# Altium schematic symbol library IRNAS_MPPT LT3652.SCHLIB: 23 symbols
Pins are listed as number, name and electrical type; pins without a type are passive.

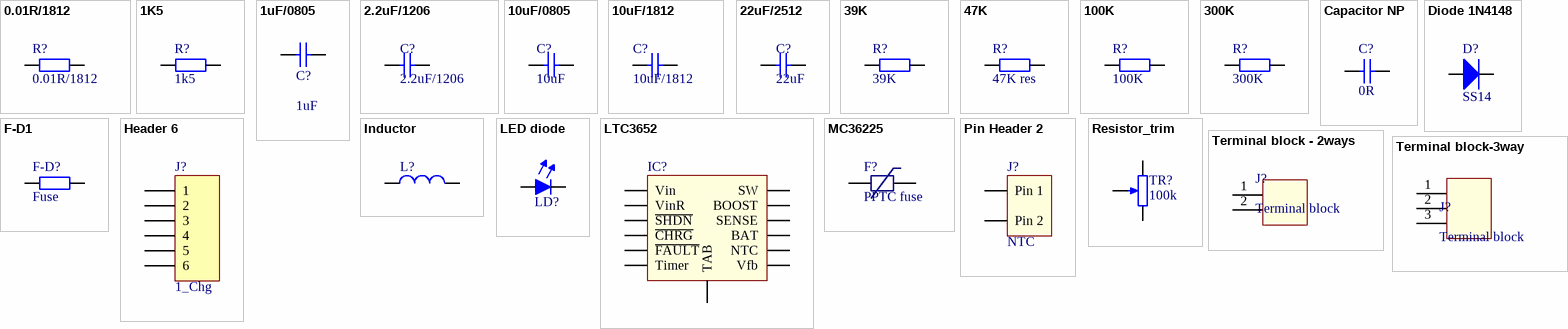
[diagram p0: symbols 0.01R/1812 to Terminal block-3way]

## 0.01R/1812
designator R?
Manufacturer: Vishay; Manufacturer Part Number: WSLT2010R0100FEA18; Description: VISHAY         WSLT2010R0100FEA18            SMD Current Sense Resistor, AEC-Q200 WSLT2010 Series, 0.01 ohm, 1 W,  1%, 2010 [5025 Metric]; Resistance: 0.01ohm; Resistor Case Style: 2010 [5025 Metric]; Power Rating: 1W; Resistance Tolerance: ± 1%; Product Range: WSLT2010 Series; Resistor Element Type: Metal Strip; Temperature Coefficient: ± 75ppm/°C; Automotive Qualification Standard: AEC-Q200; SVHC: To Be Advised; Supplier 1: Farnell; Stock 1: 12782; Pricing 1: 10=0.985, 100=0.708, 500=0.572, 1000=0.522 (EUR); Packaging: Cut Tape; MSL: MSL 1 - Unlimited; ComponentLink1URL: http://www.farnell.com/datasheets/2049204.pdf; ComponentLink1Description: http://www.farnell.com/datasheets/2049204.pdf; ComponentLink2URL: http://www.mouser.com/ds/2/427/wslt2010-73010.pdf; ComponentLink2Description: http://www.mouser.com/ds/2/427/wslt2010-73010.pdf; Supplier Part Number 1: 2420772
footprint 1812 RES (1812 RES med)
pins: 1, 2

## 1K5
designator R?, comment value 1k5  (hidden comment: Resistor generic)
1K5; Manufacturer: Vishay; Manufacturer Part Number: CRCW08051K50FKEA; Description: RES SMD 1.5K OHM 1% 1/8W 0805; Brand: Vishay / Dale; Resistance: 1.5 kOhms; Tolerance: 1 %; Power Rating: 125 mW (1/8 W); Temperature Coefficient: 100 PPM / K; Voltage Rating: 150 V; Unit Weight: 0.000194 oz; Supplier 1: Farnell; Stock 1: 1298; Pricing 1: 10=0.0358, 100=0.0246, 500=0.0193, 1000=0.0098 (GBP); Product Category: Thick Film Resistors - SMD; RoHS: Details; Case Code - in: 0805; Case Code - mm: 2012; Operating Temperature Range: - 55 C to + 155 C; Series: CRCW; Height: 0.45 mm; Length: 2 mm; Package / Case: 0805 (2012 metric); Packaging: Reel; Product: Thick Film Resistors SMD; Factory Pack Quantity: 5000; Termination Style: SMD/SMT; Width: 1.25 mm; ComponentLink1URL: https://datasheet.ciiva.com/11809/0900766b80d98b26-11809039.pdf; ComponentLink1Description: https://datasheet.ciiva.com/11809/0900766b80d98b26-11809039.pdf; ComponentLink2URL: https://datasheet.ciiva.com/2467/dcrcwe3-2467185.pdf; ComponentLink2Description: https://datasheet.ciiva.com/2467/dcrcwe3-2467185.pdf; ComponentLink3URL: https://datasheet.ciiva.com/2467/dcrcwe3-2467186.pdf; ComponentLink3Description: https://datasheet.ciiva.com/2467/dcrcwe3-2467186.pdf; ComponentLink4URL: https://datasheet.ciiva.com/2467/dcrcwe3-2467187.pdf; ComponentLink4Description: https://datasheet.ciiva.com/2467/dcrcwe3-2467187.pdf; ComponentLink5URL: https://datasheet.ciiva.com/16291/dcrcwe3-16291272.pdf; ComponentLink5Description: https://datasheet.ciiva.com/16291/dcrcwe3-16291272.pdf; ComponentLink6URL: https://datasheet.ciiva.com/7777/1720486-7777609.pdf; ComponentLink6Description: https://datasheet.ciiva.com/7777/1720486-7777609.pdf; ComponentLink7URL: https://datasheet.ciiva.com/16778/70201119-16778857.pdf; ComponentLink7Description: https://datasheet.ciiva.com/16778/70201119-16778857.pdf; ComponentLink8URL: https://datasheet.ciiva.com/26312/fld-crcw-e3-data-en-26312926.pdf; ComponentLink8Description: https://datasheet.ciiva.com/26312/fld-crcw-e3-data-en-26312926.pdf; ComponentLink9URL: https://datasheet.ciiva.com/3258/dcrcwe3-3258255.pdf; ComponentLink9Description: https://datasheet.ciiva.com/3258/dcrcwe3-3258255.pdf; ComponentLink10URL: https://datasheet.ciiva.com/7777/1697337-7777375.pdf; ComponentLink10Description: https://datasheet.ciiva.com/7777/1697337-7777375.pdf; Supplier Part Number 1: 1652940
footprint 0805 RES (RES0805 med)
footprint 1206 RES (RES1206 med)
footprint 1210 res (RES1210 med low)
footprint 1812 RES (1812 RES med)
footprint 2512 RES (2512 RES med)
footprint 0603 RES (RES0603 medium)
pins: 1, 2

## 1uF/0805
designator C?, comment 1uF
Manufacturer: Murata; Manufacturer Part Number: GCM21BR7YA105KA55L; Description: CAP CER 1UF 35V X7R 0805; Capacitance: 1 µF; Dielectric: X7R; Tolerance (%): ±10 %; Rated Voltage: 35 V; Supplier 1: Farnell; Stock 1: 3630; Pricing 1: 5=0.391, 50=0.21, 250=0.162, 500=0.111 (EUR); Case Size/Dimension: 0805; ComponentLink1URL: https://datasheet.ciiva.com/11616/product-11616620.pdf; ComponentLink1Description: https://datasheet.ciiva.com/11616/product-11616620.pdf; ComponentLink2URL: https://datasheet.ciiva.com/138/s0717e-138752.pdf; ComponentLink2Description: https://datasheet.ciiva.com/138/s0717e-138752.pdf; ComponentLink3URL: https://datasheet.ciiva.com/138/s0717e-138753.pdf; ComponentLink3Description: https://datasheet.ciiva.com/138/s0717e-138753.pdf; ComponentLink4URL: https://datasheet.ciiva.com/18183/getdatasheetpartid-251151-18183719.pdf; ComponentLink4Description: https://datasheet.ciiva.com/18183/getdatasheetpartid-251151-18183719.pdf; ComponentLink5URL: https://datasheet.ciiva.com/138/s0717e-138751.pdf; ComponentLink5Description: https://datasheet.ciiva.com/138/s0717e-138751.pdf; Supplier Part Number 1: 2494199
footprint 0805 CAP (0805 cap)
pins: 1, 2

## 2.2uF/1206
designator C?
Manufacturer: Vishay Sprague; Manufacturer Part Number: TMCMA1V225MTRF; Mfr Case Code: A Case; Description: Tantalum Capacitors - Solid SMD 2.2uF 35V 20% A case; Capacitance: 2.2 uF; Voltage Rating: 35 V; Tolerance: 20 %; ESR: 4.4 Ohms; Brand: Vishay / Sprague; Dissipation Factor DF: 8; Leakage Current: 800 nA; Ripple Current: 133 mA; Type: Solid Tantalum Surface Mount Chip Capacitors, Molded Case, Extended Range; Unit Weight: 0.000571 oz; Supplier 1: Farnell; Stock 1: 209; Pricing 1: 5=0.274, 50=0.228, 250=0.166, 500=0.153, 1000=0.14, 2000=0.122, 10000=0.119 (EUR); Product Category: Tantalum Capacitors - Solid SMD; RoHS: True; Case Code - in: 1206; Case Code - mm: 3216; Height: 1.8 mm; Operating Temperature Range: - 55 C to + 125 C; Series: TMCM; Length: 3.2 mm; Maximum Operating Temperature: + 125 C; Minimum Operating Temperature: - 55 C; Package / Case: 1206 (3216 metric); Packaging: Reel; Product: Tantalum Solid Surface Mounts; Factory Pack Quantity: 2000; Termination Style: SMD/SMT; Width: 1.6 mm; ComponentLink1URL: http://www.mouser.com/ds/2/427/tmcm-515668.pdf; ComponentLink1Description: http://www.mouser.com/ds/2/427/tmcm-515668.pdf; ComponentLink2URL: http://www.farnell.com/datasheets/1948250.pdf; ComponentLink2Description: http://www.farnell.com/datasheets/1948250.pdf; ComponentLink3URL: http://www.vishay.com/docs/40178/tmcm.pdf; ComponentLink3Description: http://www.vishay.com/docs/40178/tmcm.pdf; Supplier Part Number 1: 2491481
footprint 1206 CAP (1206 cap med)
pins: 1, 2

## 10uF/0805
designator C?, comment 10uF
Manufacturer: Murata; Manufacturer Part Number: GRM219R61A106KE44D; Description: CAP CER 10UF 10V X5R 0805; Product Training Modules: High-Cap Multilayer Ceramic Capacitors; Catalog Drawings: GRM Series_0805_0.85; Featured Product: GA3 Safety Recognized Caps and Hi-Cap MLCC; Capacitance: 10µF; Tolerance: ±10%; Voltage - Rated: 10V; Temperature Coefficient: X5R; Online Catalog: GRM Series; Other Names: 490-4735-1; Supplier 1: Farnell; Stock 1: 1196; Pricing 1: 10=0.252, 100=0.139, 500=0.102, 1000=0.0939 (EUR); Standard Package: 1; Category: Capacitors; Family: Ceramic Capacitors; Series: GRM; Packaging: Cut Tape (CT); Mounting Type: Surface Mount, MLCC; Operating Temperature: -55°C ~ 85°C; Applications: General Purpose; Ratings: -; Package / Case: 0805 (2012 Metric); Size / Dimension: 0.079" L x 0.049" W (2.00mm x 1.25mm); Height - Seated (Max): -; Thickness (Max): 0.037" (0.95mm); Lead Spacing: -; Features: -; Lead Style: -; ComponentLink1URL: https://datasheet.ciiva.com/5414/product-5414357.pdf; ComponentLink1Description: https://datasheet.ciiva.com/5414/product-5414357.pdf; ComponentLink2URL: https://datasheet.ciiva.com/3777/54grm219r61a106ke4423-3777910.pdf; ComponentLink2Description: https://datasheet.ciiva.com/3777/54grm219r61a106ke4423-3777910.pdf; ComponentLink3URL: https://datasheet.ciiva.com/172/grm219r61a106ke44-01-172352.pdf; ComponentLink3Description: https://datasheet.ciiva.com/172/grm219r61a106ke44-01-172352.pdf; ComponentLink4URL: https://datasheet.ciiva.com/172/grm219r61a106ke44-01-172353.pdf; ComponentLink4Description: https://datasheet.ciiva.com/172/grm219r61a106ke44-01-172353.pdf; ComponentLink5URL: https://datasheet.ciiva.com/172/grm219r61a106ke44-01-172354.pdf; ComponentLink5Description: https://datasheet.ciiva.com/172/grm219r61a106ke44-01-172354.pdf; ComponentLink6URL: https://datasheet.ciiva.com/7719/c02e-7719062.pdf; ComponentLink6Description: https://datasheet.ciiva.com/7719/c02e-7719062.pdf; ComponentLink7URL: https://datasheet.ciiva.com/2989/product-2989663.pdf; ComponentLink7Description: https://datasheet.ciiva.com/2989/product-2989663.pdf; ComponentLink8URL: https://datasheet.ciiva.com/17451/product-17451791.pdf; ComponentLink8Description: https://datasheet.ciiva.com/17451/product-17451791.pdf; Supplier Part Number 1: 1845741
footprint 0805 CAP (0805 cap)
pins: 1, 2

## 10uF/1812
designator C?
Manufacturer: KEMET; Manufacturer Part Number: C1812C106K3RACTU; Part # Aliases: C1812C106K3RAC7800; Description: Cap Ceramic 10uF 25V X7R 10% SMD 1812 125C Plastic T/R; Capacitance: 10 uF; Voltage Rating DC: 25 VDC; Dielectric: X7R; Tolerance: 10 %; Case Length: 4.5 mm; Case Width: 3.2 mm; Class: Class 2; Type: SMD MLCC X7R 6.3 - 250 VDC Commerical Grade; Supplier 1: Farnell; Stock 1: 1665; Pricing 1: 1=3.18, 50=1.5, 100=1.25, 250=1.07 (EUR); Product Category: Multilayer Ceramic Capacitors MLCC - SMD/SMT; RoHS: Details; Brand: Kemet; Case Code - in: 1812; Case Code - mm: 4532; Minimum Operating Temperature: - 55 C; Maximum Operating Temperature: + 125 C; Termination Style: SMD/SMT; Product: General Type MLCCs; Package / Case: 1812 (4532 metric); Packaging: Reel; Series: C1812C; Factory Pack Quantity: 1000; ComponentLink1URL: https://datasheet.ciiva.com/7807/kem-c1002-x7r-smd-7807557.pdf; ComponentLink1Description: https://datasheet.ciiva.com/7807/kem-c1002-x7r-smd-7807557.pdf; ComponentLink2URL: https://datasheet.ciiva.com/7807/1698758-7807342.pdf; ComponentLink2Description: https://datasheet.ciiva.com/7807/1698758-7807342.pdf; ComponentLink3URL: https://datasheet.ciiva.com/7807/1698758-7807343.pdf; ComponentLink3Description: https://datasheet.ciiva.com/7807/1698758-7807343.pdf; Supplier Part Number 1: 1358500
footprint 1812 CAP (1812 CAP med)
pins: 1, 2

## 22uF/2512
designator C?, comment 22uF
Manufacturer: KEMET; Manufacturer Part Number: T491D226K035AT; Description: Cap Tant Solid 22uF 35V D CASE 10% (7.3 X 4.3 X 2.8mm) SMD 7343-31 0.7 Ohm 125C T/R; Capacitance: 22000000 pF; Case Style: Molded; DCL: 7.7 uA; DF: 6%; ESR: 0.7 ohm; Insulation: Not Required; Lead Spacing (nom): Not Required mm; Polarity: Polar; Product Depth (mm): 4.3 mm; Product Height (mm): 2.8 mm; Product Length (mm): 7.3 mm; Rad Hardened: No; Tolerance (+ or -): 10%; Voltage: 35VDC; Supplier 1: Farnell; Stock 1: 0; Case Code: D; Construction: SMT Chip; Failure Rate: Not Required; Length W/Weld: Not Required mm; Length W/Weld (max): Not Required mm; Mounting Style: Surface Mount; Operating Temp Range: -55C to 125C; Package / Case: 7343-31; Packaging: Tape and Reel; Product Diameter (mm): Not Required mm; Seal: Not Required; Seated Plane Height: Not Required mm; Wire Form: Not Required; ComponentLink1URL: https://datasheet.ciiva.com/18095/getdatasheetpartid-114912-18095782.pdf; ComponentLink1Description: https://datasheet.ciiva.com/18095/getdatasheetpartid-114912-18095782.pdf; ComponentLink2URL: https://datasheet.ciiva.com/12882/kem-t2005-t491-12882636.pdf; ComponentLink2Description: https://datasheet.ciiva.com/12882/kem-t2005-t491-12882636.pdf; ComponentLink3URL: https://datasheet.ciiva.com/22698/1854511-22698957.pdf; ComponentLink3Description: https://datasheet.ciiva.com/22698/1854511-22698957.pdf; Supplier Part Number 1: 1457504
footprint 2512 CAP (2512 CAP med)
pins: 1, 2

## 39K
designator R?
Manufacturer: Vishay; Manufacturer Part Number: CRCW060339K0FKEA; Description: RES SMD 39K OHM 1% 1/10W 0603; Brand: Vishay / Dale; Resistance: 39 kOhms; Power Rating: 100 mW; Tolerance: 1 %; Temperature Coefficient: 100 PPM / K; Voltage Rating: 75 V; Case Height: 0.45 mm; Case Length: 1.55 mm; Case Width: 0.85 mm; Unit Weight: 0.000071 oz; Supplier 1: Farnell; Stock 1: 0; Product Category: Thick Film Resistors - SMD; RoHS: Details; Case Code - in: 0603; Case Code - mm: 1608; Operating Temperature Range: - 55 C to + 155 C; Package / Case: 0603 (1608 metric); Packaging: Reel; Product: Thick Film Resistors SMD; Series: CRCW; Factory Pack Quantity: 5000; ComponentLink1URL: https://datasheet.ciiva.com/11810/0900766b80d98afc-11810034.pdf; ComponentLink1Description: https://datasheet.ciiva.com/11810/0900766b80d98afc-11810034.pdf; ComponentLink2URL: https://datasheet.ciiva.com/2465/dcrcwe3-2465920.pdf; ComponentLink2Description: https://datasheet.ciiva.com/2465/dcrcwe3-2465920.pdf; ComponentLink3URL: https://datasheet.ciiva.com/7841/1697337-7841830.pdf; ComponentLink3Description: https://datasheet.ciiva.com/7841/1697337-7841830.pdf; ComponentLink4URL: https://datasheet.ciiva.com/26316/fld-crcw-e3-data-en-26316550.pdf; ComponentLink4Description: https://datasheet.ciiva.com/26316/fld-crcw-e3-data-en-26316550.pdf; ComponentLink5URL: https://datasheet.ciiva.com/16436/dcrcwe3-16436039.pdf; ComponentLink5Description: https://datasheet.ciiva.com/16436/dcrcwe3-16436039.pdf; ComponentLink6URL: https://datasheet.ciiva.com/16514/dcrcwe3-16514791.pdf; ComponentLink6Description: https://datasheet.ciiva.com/16514/dcrcwe3-16514791.pdf; ComponentLink7URL: https://datasheet.ciiva.com/16768/70201119-16768839.pdf; ComponentLink7Description: https://datasheet.ciiva.com/16768/70201119-16768839.pdf; ComponentLink8URL: https://datasheet.ciiva.com/7841/1697337-7841593.pdf; ComponentLink8Description: https://datasheet.ciiva.com/7841/1697337-7841593.pdf; ComponentLink9URL: https://datasheet.ciiva.com/2465/dcrcwe3-2465918.pdf; ComponentLink9Description: https://datasheet.ciiva.com/2465/dcrcwe3-2465918.pdf; ComponentLink10URL: https://datasheet.ciiva.com/3257/dcrcwe3-3257518.pdf; ComponentLink10Description: https://datasheet.ciiva.com/3257/dcrcwe3-3257518.pdf; ComponentLink11URL: https://datasheet.ciiva.com/2465/dcrcwe3-2465919.pdf; ComponentLink11Description: https://datasheet.ciiva.com/2465/dcrcwe3-2465919.pdf; ComponentLink12URL: https://datasheet.ciiva.com/3257/dcrcwe3-3257519.pdf; ComponentLink12Description: https://datasheet.ciiva.com/3257/dcrcwe3-3257519.pdf; ComponentLink13URL: https://datasheet.ciiva.com/5551/dcrcwe3-109170-5551951.pdf; ComponentLink13Description: https://datasheet.ciiva.com/5551/dcrcwe3-109170-5551951.pdf; Supplier Part Number 1: 1469804
footprint 0603 RES (RES0603 medium)
pins: 1, 2

## 47K
designator R?, comment 47K res
RESISTOR, 0603, 47K, FULL REEL; Manufacturer: Panasonic; Manufacturer Part Number: ERA-3AEB473V; Rated Power: 0.1 W; Resistance: 47 kO; Tolerance (%): ±0.1 %; Temp Coefficient: ±25 ppm/°C; Supplier 1: Farnell; Stock 1: 0; Size Code: 0603; ComponentLink1URL: https://datasheet.ciiva.com/11808/0900766b80fe20f7-11808041.pdf; ComponentLink1Description: https://datasheet.ciiva.com/11808/0900766b80fe20f7-11808041.pdf; ComponentLink2URL: https://datasheet.ciiva.com/29183/451523-da-01-en-widerstand-0603-era-29183849.pdf; ComponentLink2Description: https://datasheet.ciiva.com/29183/451523-da-01-en-widerstand-0603-era-29183849.pdf; ComponentLink3URL: https://datasheet.ciiva.com/46422/485442-46422694.pdf; ComponentLink3Description: https://datasheet.ciiva.com/46422/485442-46422694.pdf; ComponentLink4URL: https://datasheet.ciiva.com/43455/485442-43455239.pdf; ComponentLink4Description: https://datasheet.ciiva.com/43455/485442-43455239.pdf; ComponentLink5URL: https://datasheet.ciiva.com/46422/485442-46422695.pdf; ComponentLink5Description: https://datasheet.ciiva.com/46422/485442-46422695.pdf; ComponentLink6URL: https://datasheet.ciiva.com/16763/70068849-16763496.pdf; ComponentLink6Description: https://datasheet.ciiva.com/16763/70068849-16763496.pdf; ComponentLink7URL: https://datasheet.ciiva.com/46422/485442-46422696.pdf; ComponentLink7Description: https://datasheet.ciiva.com/46422/485442-46422696.pdf; ComponentLink8URL: https://datasheet.ciiva.com/9189/aoa0000ce26-9189371.pdf; ComponentLink8Description: https://datasheet.ciiva.com/9189/aoa0000ce26-9189371.pdf; ComponentLink9URL: https://datasheet.ciiva.com/48530/era-eng-tds-48530428.pdf; ComponentLink9Description: https://datasheet.ciiva.com/48530/era-eng-tds-48530428.pdf; ComponentLink10URL: https://datasheet.ciiva.com/6137/485442-6137967.pdf; ComponentLink10Description: https://datasheet.ciiva.com/6137/485442-6137967.pdf; ComponentLink11URL: https://datasheet.ciiva.com/9117/aoa0000ce26-9117711.pdf; ComponentLink11Description: https://datasheet.ciiva.com/9117/aoa0000ce26-9117711.pdf; ComponentLink12URL: https://datasheet.ciiva.com/16776/70068849-16776671.pdf; ComponentLink12Description: https://datasheet.ciiva.com/16776/70068849-16776671.pdf; ComponentLink13URL: https://datasheet.ciiva.com/48425/era-eng-tds-48425471.pdf; ComponentLink13Description: https://datasheet.ciiva.com/48425/era-eng-tds-48425471.pdf; Supplier Part Number 1: 1577628
footprint 0603 RES (RES0603 medium)
pins: 1, 2

## 100K
designator R?
Manufacturer: Panasonic; Manufacturer Part Number: ERA-3AEB104V; Description: Res Thin Film 0603 100K Ohm 0.1% 0.1W(1/10W) ±25ppm/C Molded SMD Automotive Punched T/R; Resistance: 100 kΩ; Rated Power: 0.1 W; Tolerance (%): ±0.1 %; Temp Coefficient: ±25 ppm/°C; Working Voltage-Nom: 75 V; Overload Voltage - Max: 150 V; No. of Terminations: 2; Supplier 1: Farnell; Stock 1: 8907; Pricing 1: 10=0.166, 100=0.0958, 500=0.077, 1000=0.0481 (GBP); Technology: Thin Film; Operating Temp Range: -55 to +155 °C; Case Size: 0603 (1608 Metric); Height - Max: 0.55 mm; ComponentLink1URL: https://datasheet.ciiva.com/11808/0900766b80fe20f7-11808030.pdf; ComponentLink1Description: https://datasheet.ciiva.com/11808/0900766b80fe20f7-11808030.pdf; ComponentLink2URL: https://datasheet.ciiva.com/29183/451655-da-01-en-widerstand-0603-era-29183868.pdf; ComponentLink2Description: https://datasheet.ciiva.com/29183/451655-da-01-en-widerstand-0603-era-29183868.pdf; ComponentLink3URL: https://datasheet.ciiva.com/5734/485442-5734533.pdf; ComponentLink3Description: https://datasheet.ciiva.com/5734/485442-5734533.pdf; ComponentLink4URL: https://datasheet.ciiva.com/16202/aoa0000ce26-16202041.pdf; ComponentLink4Description: https://datasheet.ciiva.com/16202/aoa0000ce26-16202041.pdf; ComponentLink5URL: https://datasheet.ciiva.com/46422/485442-46422521.pdf; ComponentLink5Description: https://datasheet.ciiva.com/46422/485442-46422521.pdf; ComponentLink6URL: https://datasheet.ciiva.com/9186/aoa0000ce26-9186700.pdf; ComponentLink6Description: https://datasheet.ciiva.com/9186/aoa0000ce26-9186700.pdf; ComponentLink7URL: https://datasheet.ciiva.com/30100/54aoa0000ce26-30100782.pdf; ComponentLink7Description: https://datasheet.ciiva.com/30100/54aoa0000ce26-30100782.pdf; ComponentLink8URL: https://datasheet.ciiva.com/48530/era-eng-tds-48530350.pdf; ComponentLink8Description: https://datasheet.ciiva.com/48530/era-eng-tds-48530350.pdf; ComponentLink9URL: https://datasheet.ciiva.com/16724/70068849-16724943.pdf; ComponentLink9Description: https://datasheet.ciiva.com/16724/70068849-16724943.pdf; ComponentLink10URL: https://datasheet.ciiva.com/46388/485442-46388111.pdf; ComponentLink10Description: https://datasheet.ciiva.com/46388/485442-46388111.pdf; Supplier Part Number 1: 1577632
footprint 0603 RES (RES0603 medium)
pins: 1, 2

## 300K
designator R?
Manufacturer: Panasonic; Manufacturer Part Number: ERA-3AEB304V; Description: Res Thin Film 0603 300K Ohm 0.1% 0.1W(1/10W) ±25ppm/C Molded SMD Automotive Punched T/R; Rated Power: 0.1 W; Resistance: 300 kO; Tolerance (%): ±0.1 %; Temp Coefficient: ±25 ppm/°C; Supplier 1: Farnell; Stock 1: 13349; Pricing 1: 10=0.209, 100=0.124, 500=0.0974, 1000=0.0606 (EUR); Size Code: 0603; ComponentLink1URL: https://datasheet.ciiva.com/29183/451825-da-01-en-widerstand-0603-era-29183898.pdf; ComponentLink1Description: https://datasheet.ciiva.com/29183/451825-da-01-en-widerstand-0603-era-29183898.pdf; ComponentLink2URL: https://datasheet.ciiva.com/5998/485442-5998805.pdf; ComponentLink2Description: https://datasheet.ciiva.com/5998/485442-5998805.pdf; ComponentLink3URL: https://datasheet.ciiva.com/9183/aoa0000ce26-9183317.pdf; ComponentLink3Description: https://datasheet.ciiva.com/9183/aoa0000ce26-9183317.pdf; ComponentLink4URL: https://datasheet.ciiva.com/22739/485442-22739477.pdf; ComponentLink4Description: https://datasheet.ciiva.com/22739/485442-22739477.pdf; ComponentLink5URL: https://datasheet.ciiva.com/48530/era-eng-tds-48530389.pdf; ComponentLink5Description: https://datasheet.ciiva.com/48530/era-eng-tds-48530389.pdf; ComponentLink6URL: https://datasheet.ciiva.com/5998/485442-5998807.pdf; ComponentLink6Description: https://datasheet.ciiva.com/5998/485442-5998807.pdf; ComponentLink7URL: https://datasheet.ciiva.com/25652/aoa0000ce26-25652696.pdf; ComponentLink7Description: https://datasheet.ciiva.com/25652/aoa0000ce26-25652696.pdf; ComponentLink8URL: https://datasheet.ciiva.com/16760/70068849-16760202.pdf; ComponentLink8Description: https://datasheet.ciiva.com/16760/70068849-16760202.pdf; ComponentLink9URL: https://datasheet.ciiva.com/46422/485442-46422650.pdf; ComponentLink9Description: https://datasheet.ciiva.com/46422/485442-46422650.pdf; ComponentLink10URL: https://datasheet.ciiva.com/46422/485442-46422651.pdf; ComponentLink10Description: https://datasheet.ciiva.com/46422/485442-46422651.pdf; ComponentLink11URL: https://datasheet.ciiva.com/46422/485442-46422652.pdf; ComponentLink11Description: https://datasheet.ciiva.com/46422/485442-46422652.pdf; ComponentLink12URL: https://datasheet.ciiva.com/48425/era-eng-tds-48425454.pdf; ComponentLink12Description: https://datasheet.ciiva.com/48425/era-eng-tds-48425454.pdf; ComponentLink13URL: https://datasheet.ciiva.com/30135/54aoa0000ce26-30135311.pdf; ComponentLink13Description: https://datasheet.ciiva.com/30135/54aoa0000ce26-30135311.pdf; ComponentLink14URL: https://datasheet.ciiva.com/43455/485442-43455391.pdf; ComponentLink14Description: https://datasheet.ciiva.com/43455/485442-43455391.pdf; Supplier Part Number 1: 1670209
footprint 0603 RES (RES0603 medium)
pins: 1, 2

## Capacitor NP
designator C?, comment value 0R  (hidden comment: Capacitor/Bridge)
Desc: Cap or Res 0R; Voltage: *
footprint 0603 cap
footprint 0805 CAP (0805 cap)
footprint 1206 CAP (1206 cap med)
footprint 1210 CAP (1210cap high)
footprint 1812 CAP (1812 CAP med)
footprint 2512 CAP (2512 CAP med)
pins: 1, 2

## Diode 1N4148
designator D?, comment SS14
High Conductance Fast Diode; Manufacturer: ON Semiconductor / Fairchild; Manufacturer Part Number: SS14FL; Description: DIODE SCHOTTKY 40V 1A SOD123F; Diode Type: Schottky; Voltage - DC Reverse (Vr) (Max): 40V; Current - Average Rectified (Io): 1A; Voltage - Forward (Vf) (Max) @ If: 550mV @ 1A; Speed: Fast Recovery =  200mA (Io); Reverse Recovery Time (trr): 5.695ns; Current - Reverse Leakage @ Vr: 30µA @ 40V; Supplier 1: Farnell; Stock 1: 2350; Pricing 1: 5=0.221, 25=0.214, 100=0.0895, 250=0.0825, 500=0.0654, 1000=0.0483, 5000=0.0404 (EUR); Category: Discrete Semiconductor Products; Family: Diodes - Rectifiers - Single; Series: Automotive, AEC-Q101; Packaging: Tape & Reel (TR); Capacitance @ Vr, F: -; Mounting Type: Surface Mount; Package / Case: SOD-123F; Supplier Device Package: SOD-123F; Operating Temperature - Junction: -55°C ~ 125°C; ComponentLink1URL: https://www.fairchildsemi.com/datasheets/SS/SS13FL.pdf; ComponentLink1Description: https://www.fairchildsemi.com/datasheets/SS/SS13FL.pdf; Supplier Part Number 1: 2822564
footprint 1n4148
footprint SMB (DO-214-AA/SMB; 2 C-Bend Leads; Body 5.3 x 3.6 mm, inc. leads (LxW))
pins: 1 A, 2 K

## F-D1
designator F-D?, comment Fuse
Manufacturer: Littelfuse; Manufacturer Part Number: 0466002,NR; Description: Littelfuse 2A FF Surface Mount Fuse, 63 V ac/dc; Current Rating: 2 A; Voltage Rating: 63 V ac/dc; Fuse Speed: FF; Body Material: Advanced High Temperature Substrate; Breaking Capacity at Maximum Voltage Rating: 50 A @ 63 V ac/dc; Supplier 1: Farnell; Stock 1: 8073; Pricing 1: 10=0.591, 100=0.399, 500=0.364, 1000=0.357, 2500=0.349, 5000=0.348, 25000=0.347 (EUR); Length: 3.175mm; Width: 1.524mm; Height: 0.585mm; Dimensions: 3.175 x 1.524 x 0.585mm; Minimum Operating Temperature: -55°C; Maximum Operating Temperature: +90°C; Terminal Material: Tin Over Nickel Over Copper; Operating Temperature Range: -55 → +90 °C; ComponentLink1URL: http://uk.rs-online.com/webdocs/0785/0900766b80785544.pdf; ComponentLink1Description: http://uk.rs-online.com/webdocs/0785/0900766b80785544.pdf; Supplier Part Number 1: 9921877
footprint 1206 RES (RES1206 med)
pins: 1, 2

## Header 6
designator J?, comment 1_Chg
Header, 6-Pin; LatestRevisionDate: 17-Jul-2002; LatestRevisionNote: Re-released for DXP Platform.; Publisher: Altium Limited
footprint HDR1X6 (Connector; Header; 6 Position)
signal-integrity model Connector
pins: 1, 2, 3, 4, 5, 6

## Inductor
designator L?, comment 5.6uH  (value not drawn)
Single coil; Manufacturer: Murata; Manufacturer Part Number: FDSD0420-H-1R5M=P3; Description: Ind Metal Alloy Shielded 1.5uH 20% 100KHz Powdered Iron 4.3A T/R; Type: Wirewound; Material - Core: Powdered Iron; Inductance: 1.5µH; Tolerance: ±20%; Current Rating: 4.3A; Current - Saturation: 5.7A; Shielding: Shielded; DC Resistance (DCR): 36 mOhm Max; Frequency - Test: 100kHz; Supplier 1: Farnell; Stock 1: 1920; Pricing 1: 5=0.926, 50=0.488, 250=0.464, 500=0.408, 1000=0.331, 2000=0.3, 10000=0.293 (EUR); Category: Inductors, Coils, Chokes; Family: Fixed Inductors; Series: FDSD0420; Packaging: Tape & Reel (TR); Q @ Freq: -; Frequency - Self Resonant: -; Ratings: -; Operating Temperature: -; Mounting Type: Surface Mount; Package / Case: Nonstandard; Size / Dimension: 0.165" L x 0.165" W (4.20mm x 4.20mm); Height - Seated (Max): 0.078" (2.00mm); ComponentLink1URL: http://www.murata.com/~/media/webrenewal/products/inductor/chip/tokoproducts/wirewoundmetalalloytype/m_fdsd0420.ashx; ComponentLink1Description: http://www.murata.com/~/media/webrenewal/products/inductor/chip/tokoproducts/wirewoundmetalalloytype/m_fdsd0420.ashx; ComponentLink2URL: http://www.toko.co.jp/products/pdf/inductors/fdsd0412_fdsd0415_fdsd0420.pdf; ComponentLink2Description: http://www.toko.co.jp/products/pdf/inductors/fdsd0412_fdsd0415_fdsd0420.pdf; ComponentLink3URL: http://www.farnell.com/datasheets/2550152.pdf; ComponentLink3Description: http://www.farnell.com/datasheets/2550152.pdf; Supplier Part Number 1: 2530091
footprint FDSD0420-H (Murata FDSD0420-H SMD Inductor)
pins: 1, 2

## LED diode
designator LD?  (value not drawn)
LED; Manufacturer: Multicomp; Manufacturer Part Number: 703-0112; Description: MULTICOMP         703-0112             LED, Red, SMD, 20 mA, 1.8 V, 643 nm; LED Colour: Red; LED Mounting: SMD; Forward Current If: 20mA; Forward Voltage: 1.8V; Wavelength Typ: 643nm; Luminous Intensity: 15mcd; Viewing Angle: 140°; Lens Shape: Rectangular; Supplier 1: Farnell; Stock 1: 627; Pricing 1: 5=0.163, 25=0.139, 100=0.108, 250=0.0887, 500=0.0813, 1000=0.075 (EUR); Bulb Size: -; Packaging: Each; Product Range: -; Automotive Qualification Standard: -; ComponentLink1URL: https://datasheet.ciiva.com/1244/1758066-1244070.pdf; ComponentLink1Description: https://datasheet.ciiva.com/1244/1758066-1244070.pdf; ComponentLink2URL: https://datasheet.ciiva.com/23621/1626779-23621468.pdf; ComponentLink2Description: https://datasheet.ciiva.com/23621/1626779-23621468.pdf; Supplier Part Number 1: 2112124
footprint LED_0603 (LED diode 0603)
pins: 1 A1, 2 K

## LTC3652
designator IC?  (value not drawn)
Manufacturer: Analog Devices / Linear Technology; Manufacturer Part Number: LT3652EMSE#PBF; Description: LINEAR TECHNOLOGY         LT3652EMSE#PBF             IC, BATTERY, CHARGER, SOLAR, 12MSOP; Dynamic Catalog: Charge Management, Specialized; Other Related Documents: Power-Tracking Batt-Charger Article / Designing a Solar Cell Battery Charger; Product Training Modules: LT3652 Multi-Chemistry Battery Charger for Solar Power; Featured Product: Energy Harvesting Power Products; Reference Design Library: DC1568A(#1):  2 Cell, 8.2V, 2A Max, Solar / DC1568A(#2):  2 Cell, 8.2V, 2A Max, Solar; Function: Charge Management, Solar; Battery Chemistry: Lead Acid, LiFePO4, Li-Ion, Li-Pol, NiCd, NiMH; Voltage - Supply: 4.95 V ~ 32 V; For Use With: DC1568A-ND / - BOARD BATTERY CHARGER SOLAR PWR / DC1688A-ND / - EVAL BOARD BATT CHARGER LT3652; Other Names: LT3652EMSEPBF; Value: LTC3652; Supplier 1: Farnell; Stock 1: 0; Standard Package: 37; Category: Integrated Circuits (ICs); Family: PMIC - Battery Management; Series: -; Packaging: Tube; Operating Temperature: -40°C ~ 125°C; Mounting Type: Surface Mount; Package / Case: 12-TSSOP (0.118", 3.00mm Width) Exposed Pad; Supplier Device Package: 12-MSOP-EP; Online Catalog: Charge Management, Specialized; ComponentLink1URL: https://datasheet.ciiva.com/15114/getdatasheetpartid-367678-15114671.pdf; ComponentLink1Description: https://datasheet.ciiva.com/15114/getdatasheetpartid-367678-15114671.pdf; ComponentLink2URL: https://datasheet.ciiva.com/1932/28522-1932092.pdf; ComponentLink2Description: https://datasheet.ciiva.com/1932/28522-1932092.pdf; ComponentLink3URL: https://datasheet.ciiva.com/1139/1692510-1139705.pdf; ComponentLink3Description: https://datasheet.ciiva.com/1139/1692510-1139705.pdf; Supplier Part Number 1: 1839126
footprint MSOP12 - EP (MSOP, 12-Leads, Body 4,00x3,00mm, Pitch 0,65mm, Thermal Pad 2,90x1,70mm, IPC Medium Density)
pins: 1 Vin, 2 VinR, 3 ~{SHDN}, 4 ~{CHRG}, 5 ~{FAULT}, 6 Timer, 7 Vfb, 8 NTC, 9 BAT, 10 SENSE, 11 BOOST, 12 SW, 13 TAB

## MC36225
designator F?, comment PPTC fuse
FUSE, PTC RESET, SMD, 24V, 1.1A; Manufacturer: Multicomp; Manufacturer Part Number: MC36225; Product Range: MC36 Series; Tripping Current: 2.2A; Voltage Rating: 24VDC; Carrying Current Max: 100 / A; Initial Resistance Max: 0.2 / ohm; SVHC: No SVHC (15-Jun-2015); Operating Voltage: 24 / VDC; Supplier 1: Farnell; Stock 1: 4269; Pricing 1: 1=0.122, 50=0.105, 100=0.0936, 250=0.083, 500=0.0829, 1500=0.0827, 7500=0.0826 (EUR); Holding Current: 1.1A; Thermistor Mounting: SMD; Operating Temperature Min: -40°C; Operating Temperature Max: 85°C; PTC Fuse Case Style: SMD; ComponentLink1URL: https://datasheet.ciiva.com/1279/1678471-1279072.pdf; ComponentLink1Description: https://datasheet.ciiva.com/1279/1678471-1279072.pdf; ComponentLink2URL: https://datasheet.ciiva.com/1274/1864080-1274384.pdf; ComponentLink2Description: https://datasheet.ciiva.com/1274/1864080-1274384.pdf; Supplier Part Number 1: 1861167
footprint PPTC fuse
pins: 1, 2

## Pin Header 2
designator J?, comment NTC
Beta: 3380; Value: 10k
footprint HDR1X2 (Connector; Header; 2 Position)
pins: 1 Pin 1, 2 Pin 2

## Resistor_trim
designator TR?  value 100k  (hidden comment: Resistor_trim)
Trimmer
footprint Multiturn 1 (Multiturn Trimmer Narrow)
pins: 1 TOP, 2 BOT, 3 TAP

## Terminal block - 2ways
designator J?, comment Terminal block
CONN TERM BLOCK 2POS 5MM PCB; Manufacturer: Phoenix Contact; Manufacturer Part Number: 1715022; Part # Aliases: MKDS_1,5/_2 MKDS152; Number of Positions: 2 Position; Connection Method: Screw; Current Rating: 17.5 A; Voltage Rating: 400 V; Wire Gauge Range: 26 AWG to 10 AWG; Wire Gauge Max: 10 AWG; Wire Gauge Min: 26 AWG; Unit Weight: 0.094181 oz; Supplier 1: Farnell; Stock 1: 2416; Pricing 1: 1=1, 50=0.958, 100=0.932, 250=0.869, 500=0.8, 1000=0.704 (EUR); Product Category: Fixed Terminal Blocks; RoHS: True; Pitch: 5 mm; Series: MKDS; Packaging: Bulk; Brand: Phoenix Contact; Flammability Rating: UL 94 V-0; Length: 9.8 mm; Product: Fixed Terminal Blocks; Factory Pack Quantity: 250; Termination Style: Through Hole; Tradename: COMBICON Control; ComponentLink1URL: https://datasheet.ciiva.com/824/1715022-824279.pdf; ComponentLink1Description: https://datasheet.ciiva.com/824/1715022-824279.pdf; ComponentLink2URL: https://datasheet.ciiva.com/15169/getdatasheetpartid-177834-15169625.pdf; ComponentLink2Description: https://datasheet.ciiva.com/15169/getdatasheetpartid-177834-15169625.pdf; ComponentLink3URL: https://datasheet.ciiva.com/16071/1715022-16071966.pdf; ComponentLink3Description: https://datasheet.ciiva.com/16071/1715022-16071966.pdf; ComponentLink4URL: https://datasheet.ciiva.com/14608/70054386-14608122.pdf; ComponentLink4Description: https://datasheet.ciiva.com/14608/70054386-14608122.pdf; Supplier Part Number 1: 3714240
footprint Terminal block - 2 ways
pins: 1, 2

## Terminal block-3way
designator J?, comment Terminal block
CAMDENBOSS         CTB0102/3             Wire-To-Board Terminal Block, Standard Rising Clamp, 5 mm, 3 Ways, 22 AWG, 12 AWG, 3.3 mm, Screw; Manufacturer: Camden Electronics Boss; Pitch Spacing: 5mm; No. of Positions: 3Ways; Wire Size AWG Min: 22AWG; Wire Size AWG Max: 12AWG; Conductor Area CSA: 3.3mm²; Rated Current: 10A; Rated Voltage: 300V; Block Orientation: Through Hole Right Angle; Product Range: CTB0102 Series; SVHC: No SVHC (17-Dec-2015); Supplier 1: Farnell; Manufacturer Part Number: CTB0102/3; Stock 1: 3260; Pricing 1: 10=0.437, 100=0.312, 500=0.257, 1000=0.218, 2500=0.194, 5000=0.175 (EUR); Wire Connection Method: Screw; ComponentLink1URL: http://www.farnell.com/datasheets/1955144.pdf; ComponentLink1Description: http://www.farnell.com/datasheets/1955144.pdf; Supplier Part Number 1: 2493615
footprint Terminal block-3way
pins: 1, 2, 3